# EAGLE library part AT65-0106 (library Macom)
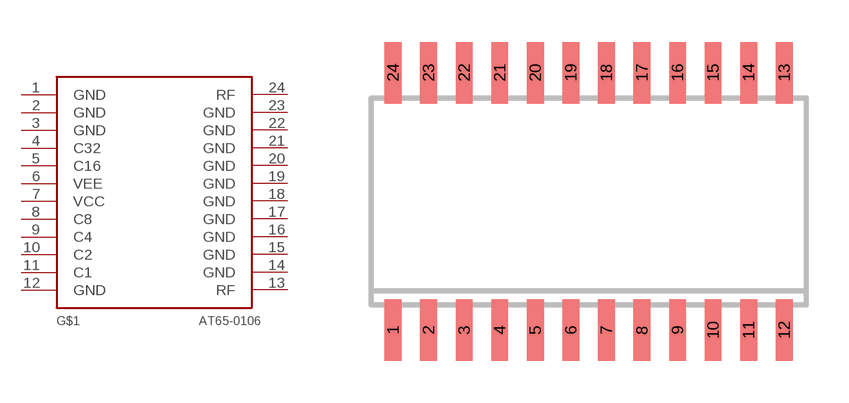
[diagram p0: symbol with the pads of SO24W; footprint SO24W]

Designator prefix G$1

## AT65-0106  [SO24W]
1  GND  pwr
2  GND  pwr
3  GND  pwr
4  C32  in
5  C16  in
6  VEE  pwr
7  VCC  pwr
8  C8  in
9  C4  in
10  C2  in
11  C1  in
12  GND  pwr
13  RF
14  GND  pwr
15  GND  pwr
16  GND  pwr
17  GND  pwr
18  GND  pwr
19  GND  pwr
20  GND  pwr
21  GND  pwr
22  GND  pwr
23  GND  pwr
24  RF

## Footprint SO24W (pad centres in mm)
SMALL OUTLINE INTEGRATED CIRCUIT wide body 7.5 mm/JEDEC MO-119AA
smd 0.6 x 2.2: 1 -6.985,-4.6; 2 -5.715,-4.6; 3 -4.445,-4.6; 4 -3.175,-4.6; 5 -1.905,-4.6; 6 -0.635,-4.6; 7 0.635,-4.6; 8 1.905,-4.6; 9 3.175,-4.6; 10 4.445,-4.6; 11 5.715,-4.6; 12 6.985,-4.6; 13 6.985,4.6; 14 5.715,4.6; 15 4.445,4.6; 16 3.175,4.6; 17 1.905,4.6; 18 0.635,4.6; 19 -0.635,4.6; 20 -1.905,4.6; 21 -3.175,4.6; 22 -4.445,4.6; 23 -5.715,4.6; 24 -6.985,4.6